# EAGLE library part PINHD-2X4_EDGE (library myLib)
PIN HEADER
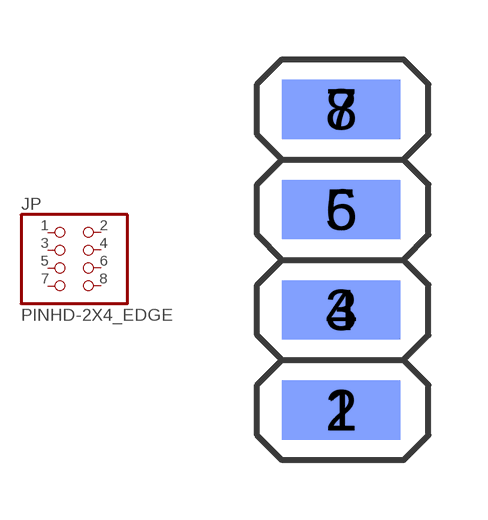
[diagram p13: symbol with the pads of 2X04; footprint 2X04]

Designator prefix JP

## PINHD-2X4_EDGE  [2X04]
1  1  pas
2  2  pas
3  3  pas
4  4  pas
5  5  pas
6  6  pas
7  7  pas
8  8  pas

## Footprint 2X04 (pad centres in mm)
PIN HEADER
smd 3 x 1.5 bottom: 1 1.5,0; 3 1.5,2.54; 5 1.5,5.08; 7 1.5,7.62
smd 3 x 1.5: 2 1.5,0; 4 1.5,2.54; 6 1.5,5.08; 8 1.5,7.62